# Altium schematic symbol library Schlib1.SchLib: 18 symbols (part 2 of 2)
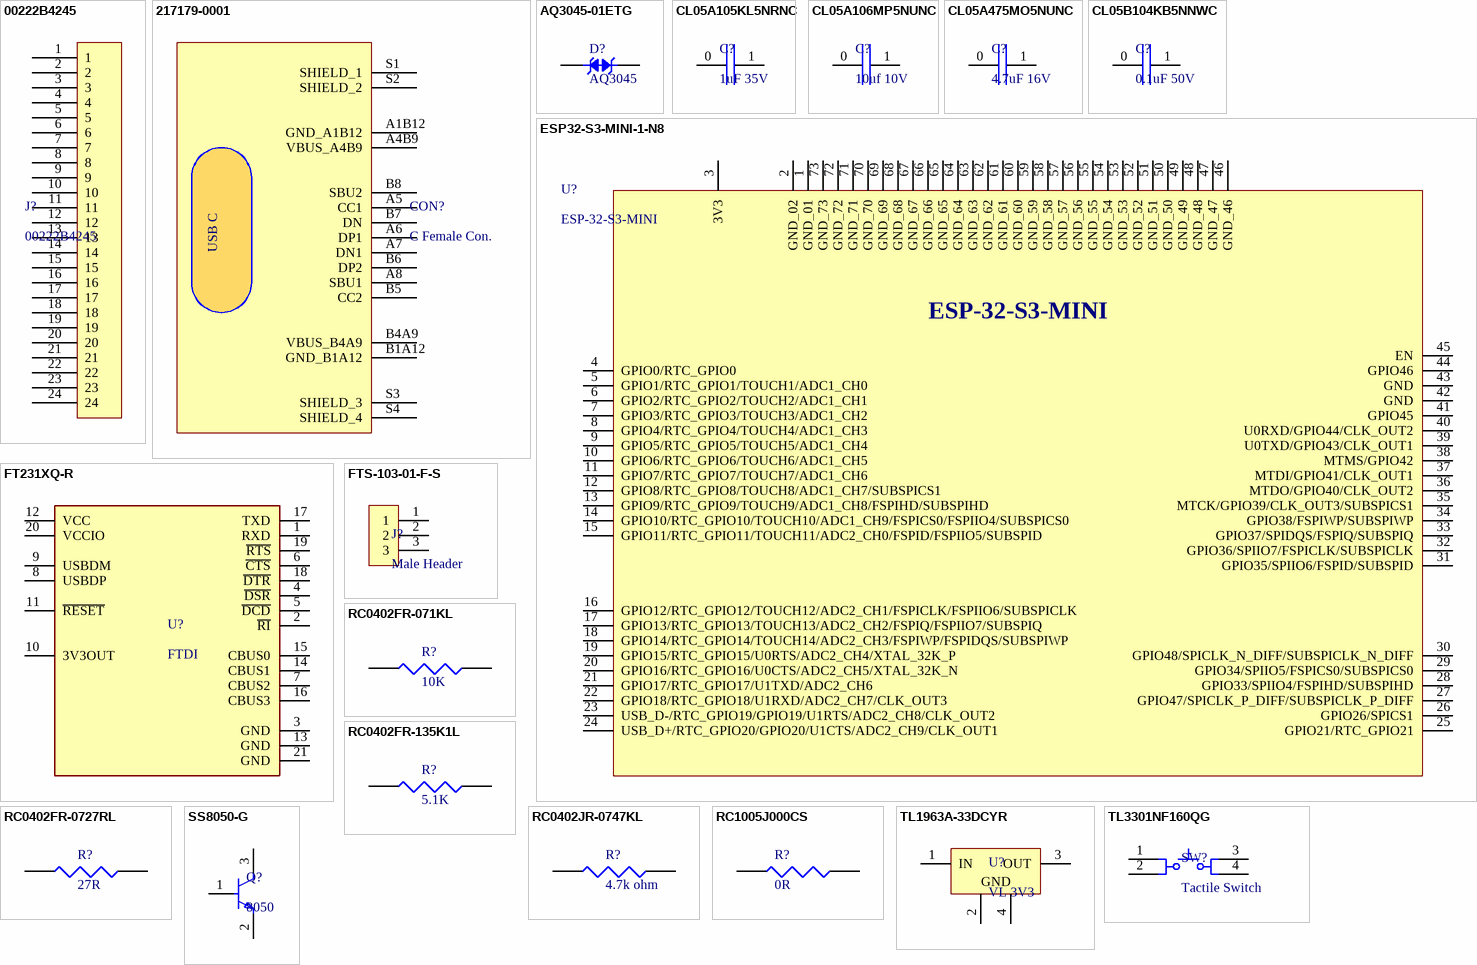
[diagram p1: symbols 00222B4245 to TL3301NF160QG]

## SS8050-G
designator Q?, comment 8050
Trans Gp Bjt NPN 25V 1.5A 300MW 3-PIN SOT-23 T/r; Manufacturer: Comchip; Manufacturer Part Number: SS8050-G; Collector Base Voltage (VCBO): 40V; Collector Emitter Saturation Voltage: 500mV; Emitter Base Voltage (VEBO): 5V; hFE Min: 40; Max Junction Temperature (Tj): 150°C; Number of Elements: 1; Transition Frequency: 100MHz; Supplier: DigiKey; Supplier Part Number: 641-1790-1-ND; RoHS: Compliant; Category: BJTs; Stock: 88753; Pricing: 1=0.24, 10=0.148, 100=0.0921, 500=0.06754, 1000=0.05958 (USD); Case/Package: TO-236-3; Collector Emitter Breakdown Voltage: 25V; Collector Emitter Voltage (VCEO): 25V; Height: 1.15mm; Lifecycle Status: Production; Max Breakdown Voltage: 25V; Max Collector Current: 1.5A; Max Operating Temperature: 150°C; Max Power Dissipation: 300mW; Mounting Technology: Surface Mount; Number of Terminals: 3; Power Dissipation: 300mW; REACH SVHC: Yes; Schedule B: 8541100070|8541100070|8541100070|8541100070|8541100070; ComponentLink1URL: https://datasheet.octopart.com:443/SS8050-G-Comchip-datasheet-180131983.pdf?src-supplier=IHS; ComponentLink1Description: https://datasheet.octopart.com:443/SS8050-G-Comchip-datasheet-180131983.pdf?src-supplier=IHS; ComponentLink2URL: https://datasheet.octopart.com:443/SS8050-G-Comchip-datasheet-155422643.pdf?src-supplier=Upverter; ComponentLink2Description: https://datasheet.octopart.com:443/SS8050-G-Comchip-datasheet-155422643.pdf?src-supplier=Upverter; ComponentLink3URL: https://datasheet.octopart.com:443/SS8050-G-Comchip-datasheet-189767092.pdf?src-supplier=ODG+(Origin+Data+Global); ComponentLink3Description: https://datasheet.octopart.com:443/SS8050-G-Comchip-datasheet-189767092.pdf?src-supplier=ODG+(Origin+Data+Global); LCSC Part Number: C164886
footprint FP-SS8050-G-IPC_B
pins: 1 B, 2 E, 3 C

## TL1963A-33DCYR
designator U?, comment VL 3V3
1.5-A, 20-V, low-dropout voltage regulator with reverse current & reverse voltage protection; Manufacturer: Texas Instruments; Manufacturer Part Number: TL1963A-33DCYR; Manufacturer Lifecycle Status: ACTIVE; Accuracy: 3%; Dropout Voltage: 340mV; Input Bias Current: 1mA; Max Supply Voltage: 20V; Max Output current: 1.5A; Max Output Voltage: 3.3V; Min Current Limit: 1.6A; Min Input Voltage: 2.1V; Number of Outputs: 1; Output Type: Fixed; Polarity: Positive; Supplier: DigiKey; Supplier Part Number: 296-24897-1-ND; RoHS: Compliant; Category: LDO Voltage Regulators; Stock: 5365; Pricing: 1=3.13, 10=2.344, 25=2.1476, 100=1.9323, 250=1.82956, 500=1.76766, 1000=1.71669 (USD); Case/Package: SOT-223; Contact Plating: Tin; Height: 1.8mm; Lead Free: Lead Free; Length: 6.5mm; Lifecycle Status: Production; Max Operating Temperature: 125°C; Min Operating Temperature: -40°C; Min Output Voltage: 3.3V; Nominal Output Voltage: 3.3V; Pins: 4; Number of Regulators: 1; Output Current: 1.5A; Output Voltage: 3.3V; Quiescent Current: 1mA; Radiation Hardening: No; REACH SVHC: No; Schedule B: 8542390000, 8542390000|8542390000|8542390000|8542390000|8542390000; Thickness: 1.6mm; Width: 3.5mm; ComponentLink1URL: https://datasheet.octopart.com:443/TL1963A-33DCYR-Texas-Instruments-datasheet-36835243.pdf?src-supplier=Texas+Instruments; ComponentLink1Description: https://datasheet.octopart.com:443/TL1963A-33DCYR-Texas-Instruments-datasheet-36835243.pdf?src-supplier=Texas+Instruments; ComponentLink2URL: https://octopart.com:443/opatz8j6/c1?t=ue34aQf-Pf0weOUYV3eko1qZLLyE48fCV2-zg-TsNp1rsW1B6nlw9cjsqo2zREwEOqR3yka64AKjT1Qb6_GEktXrjT4KyRi_Lw8AXAO-f-qsC5IWw0K-58XDkHHT1lD142LOET-jwQiEsvFSFdN-PjTe1QsFcl-DgR7qoUeMNIFOdMsEc8DDtW9TQMuxEhLdy5D8O7bg3FKTHwcTkEHTeeZL-BGRD4V2gVj7q1Iqk_g4gGpnxCaabYdKBfitTQOm0-y87aJLE51BAYhVoagzuuw_l99eEa8gAuXS1dSBeL5ckbDn8ncHHEQVlCFJcOlrNP71Dr9JbHrQ7dY_LkHNG9mkboBuZKfdRdTVQD5rN7SdhYFFdEvycEesiEo-3kvY3MYHmk0&src-supplier=Texas+Instruments; ComponentLink2Description: https://octopart.com:443/opatz8j6/c1?t=ue34aQf-Pf0weOUYV3eko1qZLLyE48fCV2-zg-TsNp1rsW1B6nlw9cjsqo2zREwEOqR3yka64AKjT1Qb6_GEktXrjT4KyRi_Lw8AXAO-f-qsC5IWw0K-58XDkHHT1lD142LOET-jwQiEsvFSFdN-PjTe1QsFcl-DgR7qoUeMNIFOdMsEc8DDtW9TQMuxEhLdy5D8O7bg3FKTHwcTkEHTeeZL-BGRD4V2gVj7q1Iqk_g4gGpnxCaabYdKBfitTQOm0-y87aJLE51BAYhVoagzuuw_l99eEa8gAuXS1dSBeL5ckbDn8ncHHEQVlCFJcOlrNP71Dr9JbHrQ7dY_LkHNG9mkboBuZKfdRdTVQD5rN7SdhYFFdEvycEesiEo-3kvY3MYHmk0&src-supplier=Texas+Instruments; ComponentLink3URL: https://datasheet.octopart.com:443/TL1963A-33DCYR-Texas-Instruments-datasheet-10255270.pdf?src-supplier=Texas+Instruments; ComponentLink3Description: https://datasheet.octopart.com:443/TL1963A-33DCYR-Texas-Instruments-datasheet-10255270.pdf?src-supplier=Texas+Instruments; ComponentLink4URL: https://sigma.octopart.com:443/49253063/technical_drawing/Texas-Instruments-TL1963A-33DCYR.pdf?src-supplier=Texas+Instruments; ComponentLink4Description: https://sigma.octopart.com:443/49253063/technical_drawing/Texas-Instruments-TL1963A-33DCYR.pdf?src-supplier=Texas+Instruments; ComponentLink5URL: https://datasheet.octopart.com:443/TL1963A-33DCYR-Texas-Instruments-datasheet-159117591.pdf?src-supplier=Augswan; ComponentLink5Description: https://datasheet.octopart.com:443/TL1963A-33DCYR-Texas-Instruments-datasheet-159117591.pdf?src-supplier=Augswan; ComponentLink6URL: https://datasheet.octopart.com:443/TL1963A-33DCYR-Texas-Instruments-datasheet-21820479.pdf?src-supplier=Newark; ComponentLink6Description: https://datasheet.octopart.com:443/TL1963A-33DCYR-Texas-Instruments-datasheet-21820479.pdf?src-supplier=Newark; ComponentLink7URL: https://datasheet.octopart.com:443/TL1963A-33DCYR-Texas-Instruments-datasheet-16079880.pdf?src-supplier=Farnell; ComponentLink7Description: https://datasheet.octopart.com:443/TL1963A-33DCYR-Texas-Instruments-datasheet-16079880.pdf?src-supplier=Farnell; ComponentLink8URL: https://datasheet.octopart.com:443/TL1963A-33DCYR-Texas-Instruments-datasheet-14171511.pdf?src-supplier=iiiC; ComponentLink8Description: https://datasheet.octopart.com:443/TL1963A-33DCYR-Texas-Instruments-datasheet-14171511.pdf?src-supplier=iiiC; ComponentLink9URL: http://sigma.octopart.com:80/conflict_mineral_statement/Texas-Instruments-company-63.pdf?src-supplier=Compliance+Statements; ComponentLink9Description: http://sigma.octopart.com:80/conflict_mineral_statement/Texas-Instruments-company-63.pdf?src-supplier=Compliance+Statements; ComponentLink10URL: http://sigma.octopart.com:80/reach_statement/Texas-Instruments-company-64.pdf?src-supplier=Compliance+Statements; ComponentLink10Description: http://sigma.octopart.com:80/reach_statement/Texas-Instruments-company-64.pdf?src-supplier=Compliance+Statements; LCSC Part Number: C181262
footprint DCY0004A_N (SOT223, 4-Leads, Body 6.7x3.7mm, Pitch 2.3mm, IPC Medium Density)
pins: 1 IN (power) "Input. Power is supplied to the device through the IN pin. A bypass capacitor is required on this pin if the device is more than six inches away from the main input filter capacitor. In general, the output impedance of a (See Datasheet)", 2 GND (power) "Ground", 3 OUT (power) "Output. The output supplies power to the load. A minimum output capacitor (ceramic) of 10 uF is required to prevent oscillations. Larger output capacitors are required for applications with large transient loads to limit (See Datasheet)", 4 GND (power) "Ground"

## TL3301NF160QG
designator SW?, comment Tactile Switch
Switch Tactile N.O. SPST Round Button Gull Wing 0.05A 12VDC 100000Cycles 1.57N SMD T/R; Manufacturer: E-Switch; Manufacturer Part Number: TL3301NF160QG; Actuator Length: 700µm; Contact Current Rating: 50mA; Contact Resistance: 100mΩ; Electrical Life: 100kcycles; Illumination Type: Illuminated; Max Voltage Rating (DC): 12V; Number of Positions: 1; Supplier: Mouser; Supplier Part Number: 612-TL3301N; RoHS: Compliant; Category: Tactile Switches; Stock: 39289; Pricing: 1=0.23, 10=0.207, 25=0.202, 50=0.202, 100=0.182, 250=0.169, 500=0.15, 1000=0.15, 1200=0.141, 2400=0.137, 4800=0.128, 10000=0.128 (USD); Color: Black; Contact Material: Silver; Contact Plating: Silver; Current Rating: 50mA; Height: 3.6mm; Housing Material: Nylon; Insulation Resistance: 100MΩ; Lead Free: Lead Free; Length: 6mm; Lifecycle Status: Production; Max Current Rating: 50mA; Max Operating Temperature: 70°C; Min Operating Temperature: -40°C; Mounting Technology: Surface Mount; Operating Force: 1.57N; REACH SVHC: Yes; Termination: Solder; Throw Configuration: SPST; Voltage Rating (DC): 12V; Width: 6mm; ComponentLink1URL: https://datasheet.octopart.com:443/TL3301NF160QG-E-Switch-datasheet-182203450.pdf?src-supplier=IHS; ComponentLink1Description: https://datasheet.octopart.com:443/TL3301NF160QG-E-Switch-datasheet-182203450.pdf?src-supplier=IHS; ComponentLink2URL: https://datasheet.octopart.com:443/TL3301NF160QG-E-Switch-datasheet-500121.pdf?src-supplier=Farnell; ComponentLink2Description: https://datasheet.octopart.com:443/TL3301NF160QG-E-Switch-datasheet-500121.pdf?src-supplier=Farnell; ComponentLink3URL: https://datasheet.octopart.com:443/TL3301NF160QG-E-Switch-datasheet-100437263.pdf?src-supplier=Farnell; ComponentLink3Description: https://datasheet.octopart.com:443/TL3301NF160QG-E-Switch-datasheet-100437263.pdf?src-supplier=Farnell; ComponentLink4URL: https://datasheet.octopart.com:443/TL3301NF160QG-E-Switch-datasheet-140258799.pdf?src-supplier=Newark; ComponentLink4Description: https://datasheet.octopart.com:443/TL3301NF160QG-E-Switch-datasheet-140258799.pdf?src-supplier=Newark; ComponentLink5URL: https://datasheet.octopart.com:443/TL3301NF160QG-E-Switch-datasheet-32479546.pdf?src-supplier=Newark; ComponentLink5Description: https://datasheet.octopart.com:443/TL3301NF160QG-E-Switch-datasheet-32479546.pdf?src-supplier=Newark; ComponentLink6URL: https://datasheet.octopart.com:443/TL3301NF160QG-E-Switch-datasheet-155463344.pdf?src-supplier=Future+Electronics; ComponentLink6Description: https://datasheet.octopart.com:443/TL3301NF160QG-E-Switch-datasheet-155463344.pdf?src-supplier=Future+Electronics; ComponentLink7URL: https://datasheet.octopart.com:443/TL3301NF160QG-E-Switch-datasheet-26831017.pdf?src-supplier=Future+Electronics; ComponentLink7Description: https://datasheet.octopart.com:443/TL3301NF160QG-E-Switch-datasheet-26831017.pdf?src-supplier=Future+Electronics; ComponentLink8URL: https://datasheet.octopart.com:443/TL3301NF160QG-E-Switch-datasheet-574176.pdf?src-supplier=Future+Electronics; ComponentLink8Description: https://datasheet.octopart.com:443/TL3301NF160QG-E-Switch-datasheet-574176.pdf?src-supplier=Future+Electronics; ComponentLink9URL: https://datasheet.octopart.com:443/TL3301NF160QG-E-Switch-datasheet-27847350.pdf?src-supplier=Master+Electronics; ComponentLink9Description: https://datasheet.octopart.com:443/TL3301NF160QG-E-Switch-datasheet-27847350.pdf?src-supplier=Master+Electronics; ComponentLink10URL: https://datasheet.octopart.com:443/TL3301NF160QG/TR-E-Switch-datasheet-121581.pdf?src-supplier=DigiKey; ComponentLink10Description: https://datasheet.octopart.com:443/TL3301NF160QG/TR-E-Switch-datasheet-121581.pdf?src-supplier=DigiKey; LCSC Part Number: C273526
footprint ESWI-TL3301NF160QG_V (SMD, 4-Leads, Body 6x6mm)
pins: 1, 2, 3, 4